# Altium footprint library PcbLib1.PcbLib: 26 footprints (part 2 of 2)
Each footprint in its own frame and in the unit in brackets; x right, y up, seen from the top. Pads: shape width x height; smd on the part's side, far side on the other; paste and mask are expansions set on the pad; w line width, h text height; cw(c..) or ccw(c..) is an arc to the next point about the centre after c.
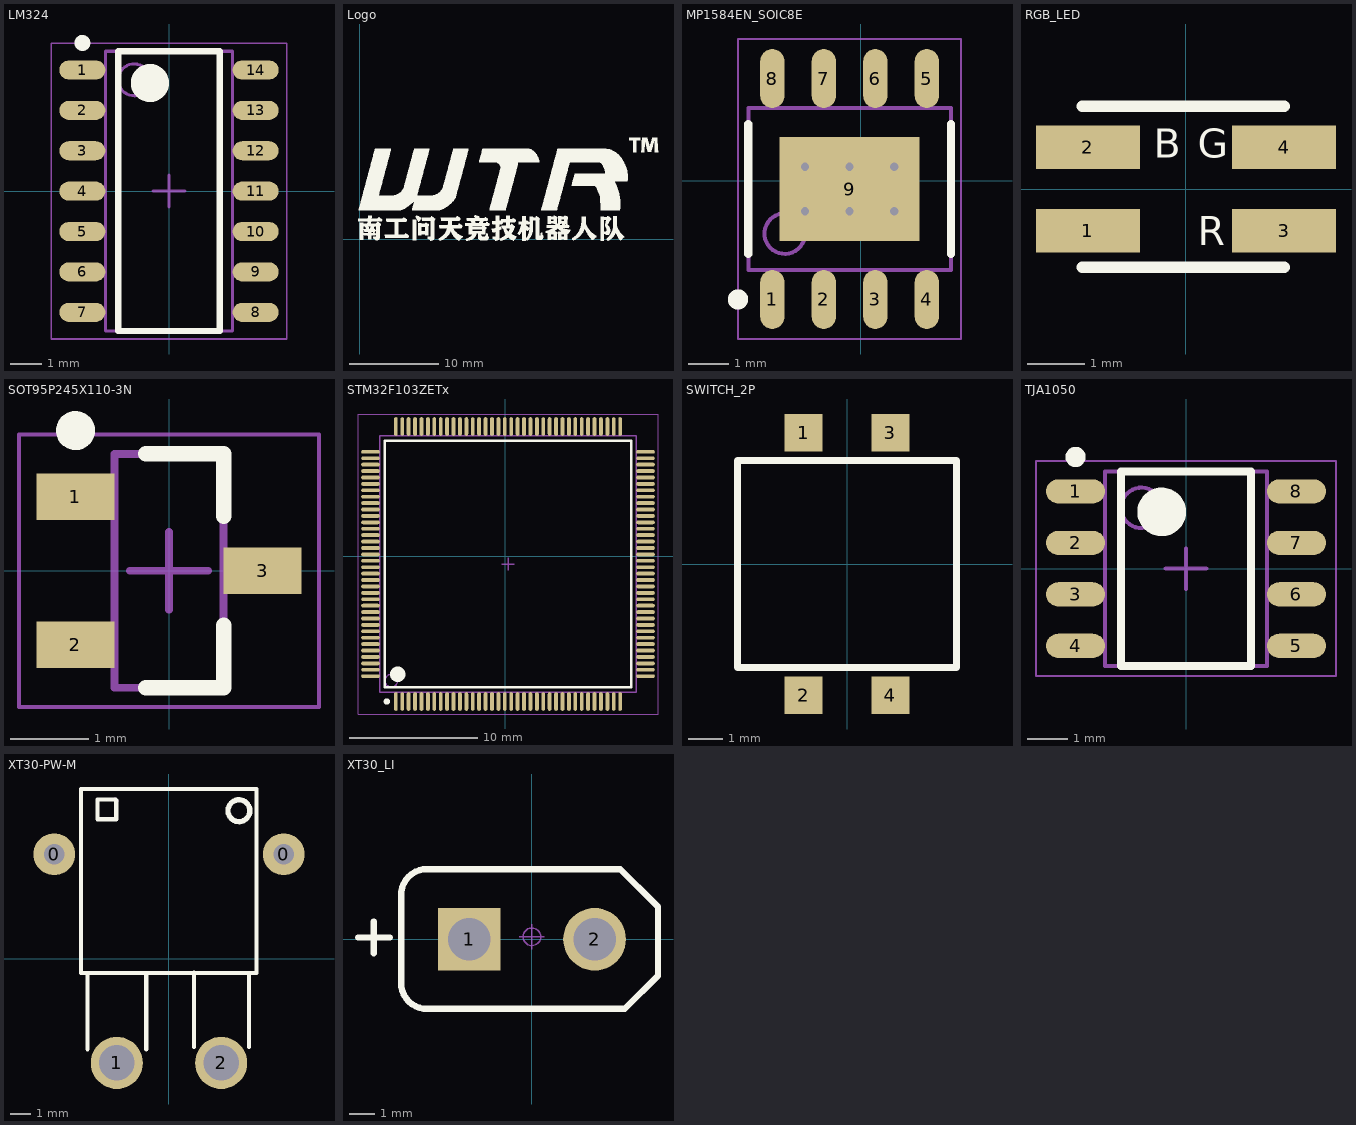
[diagram p1: the footprints below, top view; thin cyan lines are the x and y axes]

## LM324 [mm] "SOIC, 14-Leads, Body 8.65x3.90mm, Pitch 1.27mm, IPC Medium Density"
height 1.75
pads (14):
  oval 1.45x0.6 smd: 1(-2.725,3.81) 2(-2.725,2.54) 3(-2.725,1.27) 4(-2.725,0) 5(-2.725,-1.27) 6(-2.725,-2.54) 7(-2.725,-3.81) 8(2.725,-3.81) 9(2.725,-2.54) 10(2.725,-1.27) 11(2.725,0) 12(2.725,1.27) 13(2.725,2.54) 14(2.725,3.81)
Top Overlay:
  circle w0.25: c-2.725,4.66 r0.125
  circle w0.6: c-0.6,3.4 r0.3
  lines w0.2: -1.6,-4.4 -1.6,4.4 1.6,4.4 1.6,-4.4 -1.6,-4.4
Top Assembly:
  circle w0.1: c-1.1,3.5 r0.5
  lines w0.1: -2,-4.4 -2,4.4 2,4.4 2,-4.4 -2,-4.4
Top Courtyard:
  lines w0.05: -3.7,-4.65 -3.7,4.65 3.7,4.65 3.7,-4.65 -3.7,-4.65
  lines w0.1: -0.5,0 0.5,0 ; 0,-0.5 0,0.5
3D body: height 1.75, standoff 0.1, extent -2,-4.4 2,4.4

## Logo [mm]
Top Overlay:
  drawing of 4116 lines, arcs and shapes, not listed

## MP1584EN_SOIC8E [mm] "SOIC, 8-Leads, Body 4.90x3.90mm, Pitch 1.27mm, Thermal Pad 3.45x2.56mm, IPC Medium Density"
height 1.7
pads (9):
  oval 0.6x1.45 smd: 1(-2.184,-2.928) 2(-0.914,-2.928) 3(0.356,-2.928) 4(1.626,-2.928) 5(1.626,2.522) 6(0.356,2.522) 7(-0.914,2.522) 8(-2.184,2.522)
  rect 3.45x2.56 smd: 9(-0.279,-0.203)
via -1.379,-0.753 diameter 0.5 hole 0.2
via -1.379,0.347 diameter 0.5 hole 0.2
via -0.279,-0.753 diameter 0.5 hole 0.2
via -0.279,0.347 diameter 0.5 hole 0.2
via 0.821,-0.753 diameter 0.5 hole 0.2
via 0.821,0.347 diameter 0.5 hole 0.2
Top Overlay:
  circle w0.25: c-3.034,-2.928 r0.125
  lines w0.2: -2.779,-1.803 -2.779,1.397 ; 2.221,-1.803 2.221,1.397
Top Assembly:
  circle w0.1: c-1.879,-1.303 r0.5
  lines w0.1: -2.779,-2.203 2.221,-2.203 2.221,1.797 -2.779,1.797 -2.779,-2.203
Top Courtyard:
  lines w0.05: -3.029,-3.903 2.471,-3.903 2.471,3.497 -3.029,3.497 -3.029,-3.903
  lines w0.1: -0.779,-0.203 0.221,-0.203 ; -0.279,-0.703 -0.279,0.297
3D body: height 1.7, standoff 0, extent -2.779,-2.203 2.221,1.797

## RGB_LED [mm]
pads (4):
  rect 1.8x0.75 smd: 1(-1.7,-0.725) 2(-1.7,0.725) 3(1.7,-0.725) 4(1.7,0.725)
Top Overlay:
  lines w0.2: -1.799,-1.36 1.701,-1.36 ; -1.799,1.437 1.7,1.437
  text "B" at -0.557,0.545 h0.5
  text "G" at 0.205,0.545 h0.5
  text "R" at 0.205,-0.979 h0.5

## SOT95P245X110-3N [mm] "SOT23, 3-Leads, Body 2.90x2.45mm, Pitch 0.95mm, IPC Medium Density"
height 1.1
pads (3):
  rect 1x0.6 smd: 1(-1.2,0.95) 2(-1.2,-0.95) 3(1.2,0)
Top Overlay:
  circle w0.25: c-1.2,1.8 r0.125
  lines w0.2: -0.3,-1.5 0.7,-1.5 0.7,-0.7 ; -0.3,1.5 0.7,1.5 0.7,0.7
Top Assembly:
  lines w0.1: -0.7,-1.5 0.7,-1.5 0.7,1.5 -0.7,1.5 -0.7,-1.5
Top Courtyard:
  lines w0.05: -1.925,-1.75 1.925,-1.75 1.925,1.75 -1.925,1.75 -1.925,-1.75
  lines w0.1: -0.5,0 0.5,0 ; 0,-0.5 0,0.5
3D body: height 1.1, standoff 0.05, extent -0.7,-1.5 0.7,1.5

## STM32F103ZETx [mm] "TSQFP, 144-Leads, Body 20.00x20.00mm, Pitch 0.50mm, IPC Medium Density"
height 1.6
pads (144):
  oval 0.3x1.45 smd: 1(-8.547,-11.335) 2(-8.047,-11.335) 3(-7.547,-11.335) 4(-7.047,-11.335) 5(-6.547,-11.335) 6(-6.047,-11.335) 7(-5.547,-11.335) 8(-5.047,-11.335) 9(-4.547,-11.335) 10(-4.047,-11.335) 11(-3.547,-11.335) 12(-3.047,-11.335) 13(-2.547,-11.335) 14(-2.047,-11.335) 15(-1.547,-11.335) 16(-1.047,-11.335) 17(-0.547,-11.335) 18(-0.047,-11.335) 19(0.453,-11.335) 20(0.953,-11.335) 21(1.453,-11.335) 22(1.953,-11.335) 23(2.453,-11.335) 24(2.953,-11.335) 25(3.453,-11.335) 26(3.953,-11.335) 27(4.453,-11.335) 28(4.953,-11.335) 29(5.453,-11.335) 30(5.953,-11.335) 31(6.453,-11.335) 32(6.953,-11.335) 33(7.453,-11.335) 34(7.953,-11.335) 35(8.453,-11.335) 36(8.953,-11.335) 73(8.953,10.115) 74(8.453,10.115) 75(7.953,10.115) 76(7.453,10.115) 77(6.953,10.115) 78(6.453,10.115) 79(5.953,10.115) 80(5.453,10.115) 81(4.953,10.115) 82(4.453,10.115) 83(3.953,10.115) 84(3.453,10.115) 85(2.953,10.115) 86(2.453,10.115) 87(1.953,10.115) 88(1.453,10.115) 89(0.953,10.115) 90(0.453,10.115) 91(-0.047,10.115) 92(-0.547,10.115) 93(-1.047,10.115) 94(-1.547,10.115) 95(-2.047,10.115) 96(-2.547,10.115) 97(-3.047,10.115) 98(-3.547,10.115) 99(-4.047,10.115) 100(-4.547,10.115) 101(-5.047,10.115) 102(-5.547,10.115) 103(-6.047,10.115) 104(-6.547,10.115) 105(-7.047,10.115) 106(-7.547,10.115) 107(-8.047,10.115) 108(-8.547,10.115)
  oval 1.45x0.3 smd: 37(10.928,-9.36) 38(10.928,-8.86) 39(10.928,-8.36) 40(10.928,-7.86) 41(10.928,-7.36) 42(10.928,-6.86) 43(10.928,-6.36) 44(10.928,-5.86) 45(10.928,-5.36) 46(10.928,-4.86) 47(10.928,-4.36) 48(10.928,-3.86) 49(10.928,-3.36) 50(10.928,-2.86) 51(10.928,-2.36) 52(10.928,-1.86) 53(10.928,-1.36) 54(10.928,-0.86) 55(10.928,-0.36) 56(10.928,0.14) 57(10.928,0.64) 58(10.928,1.14) 59(10.928,1.64) 60(10.928,2.14) 61(10.928,2.64) 62(10.928,3.14) 63(10.928,3.64) 64(10.928,4.14) 65(10.928,4.64) 66(10.928,5.14) 67(10.928,5.64) 68(10.928,6.14) 69(10.928,6.64) 70(10.928,7.14) 71(10.928,7.64) 72(10.928,8.14) 109(-10.522,8.14) 110(-10.522,7.64) 111(-10.522,7.14) 112(-10.522,6.64) 113(-10.522,6.14) 114(-10.522,5.64) 115(-10.522,5.14) 116(-10.522,4.64) 117(-10.522,4.14) 118(-10.522,3.64) 119(-10.522,3.14) 120(-10.522,2.64) 121(-10.522,2.14) 122(-10.522,1.64) 123(-10.522,1.14) 124(-10.522,0.64) 125(-10.522,0.14) 126(-10.522,-0.36) 127(-10.522,-0.86) 128(-10.522,-1.36) 129(-10.522,-1.86) 130(-10.522,-2.36) 131(-10.522,-2.86) 132(-10.522,-3.36) 133(-10.522,-3.86) 134(-10.522,-4.36) 135(-10.522,-4.86) 136(-10.522,-5.36) 137(-10.522,-5.86) 138(-10.522,-6.36) 139(-10.522,-6.86) 140(-10.522,-7.36) 141(-10.522,-7.86) 142(-10.522,-8.36) 143(-10.522,-8.86) 144(-10.522,-9.36)
Top Overlay:
  circle w0.25: c-9.247,-11.335 r0.125
  circle w0.6: c-8.397,-9.21 r0.3
  lines w0.2: -9.397,-10.21 9.803,-10.21 9.803,8.99 -9.397,8.99 -9.397,-10.21
Top Assembly:
  circle w0.1: c-8.897,-9.71 r0.5
  lines w0.1: -9.797,-10.61 10.203,-10.61 10.203,9.39 -9.797,9.39 -9.797,-10.61
Top Courtyard:
  lines w0.05: -11.497,-12.31 11.903,-12.31 11.903,11.09 -11.497,11.09 -11.497,-12.31
  lines w0.1: -0.297,-0.61 0.703,-0.61 ; 0.203,-1.11 0.203,-0.11
3D body: height 1.6, standoff 0.15, extent -9.797,-10.61 10.203,9.39

## SWITCH_2P [mm]
pads (4):
  rect 1.1x1.1 smd: 1(-1.27,3.835) 2(-1.27,-3.835) 3(1.27,3.835) 4(1.27,-3.835)
Top Overlay:
  lines w0.2: -3.2,-2.286 -3.2,2.413 ; -3.2,-2.25 -3.2,-3.025 -2.692,-3.025 2.769,-3.025 ; -3.2,2.4 -3.2,3.025 -2.525,3.025 ; -2.565,3.025 2.896,3.025 3.2,3.025 3.2,2.125 ; 2.775,-3.025 3.2,-3.025 3.2,-2.525 ; 3.2,-2.54 3.2,2.159

## TJA1050 [mm] "SOIC, 8-Leads, Body 4.90x3.90mm, Pitch 1.27mm, IPC Medium Density"
height 1.75
pads (8):
  oval 1.45x0.6 smd: 1(-2.725,1.905) 2(-2.725,0.635) 3(-2.725,-0.635) 4(-2.725,-1.905) 5(2.725,-1.905) 6(2.725,-0.635) 7(2.725,0.635) 8(2.725,1.905)
Top Overlay:
  circle w0.25: c-2.725,2.755 r0.125
  circle w0.6: c-0.6,1.4 r0.3
  lines w0.2: -1.6,-2.4 -1.6,2.4 1.6,2.4 1.6,-2.4 -1.6,-2.4
Top Assembly:
  circle w0.1: c-1.1,1.5 r0.5
  lines w0.1: -2,-2.4 -2,2.4 2,2.4 2,-2.4 -2,-2.4
Top Courtyard:
  lines w0.05: -3.7,-2.65 -3.7,2.65 3.7,2.65 3.7,-2.65 -3.7,-2.65
  lines w0.1: -0.5,0 0.5,0 ; 0,-0.5 0,0.5
3D body: height 1.75, standoff 0.1, extent -2,-2.4 2,2.4

## XT30-PW-M [mm]
pads (4):
  round 2 hole 1: 0(-5.5,5) 0(5.5,5)
  round 2.5 hole 1.7: 1(-2.5,-5) 2(2.5,-5)
Top Overlay:
  circle w0.254: c3.353,7.087 r0.524
  lines w0.2: -3.912,-4.343 -3.912,-0.686 ; -2.565,7.62 -3.429,7.62 -3.429,6.68 -2.525,6.68 -2.525,7.58 ; -1.092,-4.343 -1.092,-0.711 ; 1.194,-4.242 1.194,-3.346 1.194,-1.556 1.194,-0.66 ; 3.835,-4.242 3.835,-0.686 ; -4.216,-0.686 -4.216,8.128 4.191,8.128 4.191,-0.686 -4.216,-0.686
Mechanical 1:
  lines w0.2: -2.565,7.62 -2.525,7.58

## XT30_LI [mm]
pads (2):
  rect 2.5x2.5 hole 1.7: 1(-2.5,0)
  round 2.5 hole 1.7: 2(2.5,0)
Top Overlay:
  lines w0.254: -6.934,0.075 -5.664,0.075 ; -6.299,-0.56 -6.299,0.71 ; -4.191,-2.769 3.531,-2.769 3.708,-2.769 5.029,-1.448 5.029,-1.422 5.029,1.301 4.91,1.42 3.531,2.8 -4.166,2.8 ccw(c-4.191,1.778) -5.212,1.729 -5.212,-1.727 ccw(c-4.19,-1.753) -4.142,-2.774
Mechanical 15:
  circle w0.05: c0,0.1 r0.35
  lines w0.05: -0.5,0.1 0.5,0.1 ; 0,-0.4 0,0.6